# EAGLE library part AVR-ISP (library Arduino-shield-scaffolds)
AVR SPI ISP programming connector (6pins)
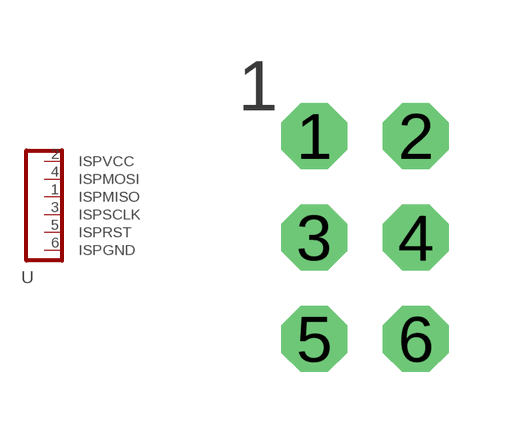
[diagram p7: symbol with the pads of 6PINS; footprint 6PINS]

Designator prefix -

## AVR-ISP  [6PINS]
1  ISPMISO  in
2  ISPVCC  pwr
3  ISPSCLK  out
4  ISPMOSI  out
5  ISPRST  in
6  ISPGND  pwr

## Footprint 6PINS (pad centres in mm)
drill 1.1 octagon: 1 -1.27,2.54; 2 1.27,2.54; 3 -1.27,0; 4 1.27,0; 5 -1.27,-2.54; 6 1.27,-2.54